# Altium footprint library ADPL16000AATAT.PcbLib: 1 footprints
Each footprint in its own frame and in the unit in brackets; x right, y up, seen from the top. Pads: shape width x height; smd on the part's side, far side on the other; paste and mask are expansions set on the pad; w line width, h text height; cw(c..) or ccw(c..) is an arc to the next point about the centre after c.
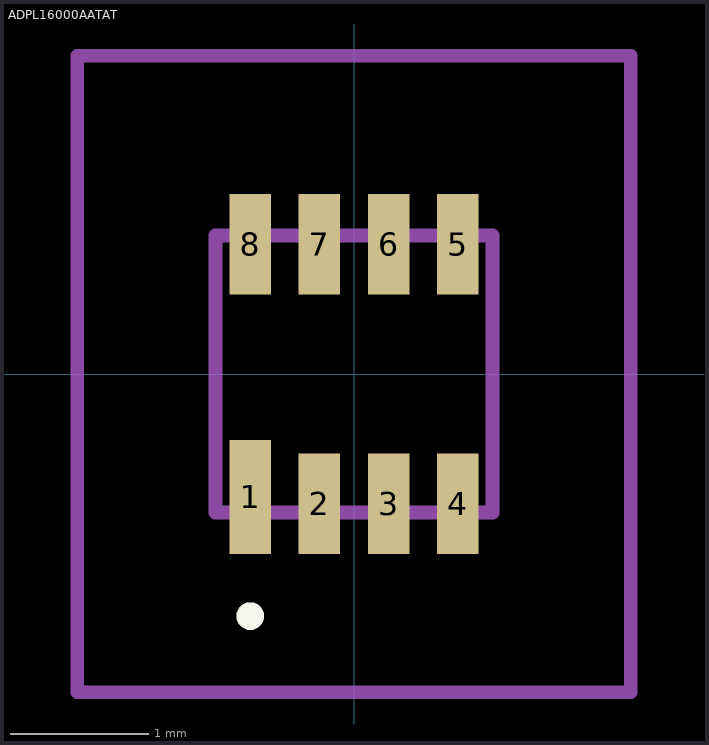
[diagram p0: the footprint, top view; thin cyan lines are the x and y axes]

## ADPL16000AATAT [mm]
pads (8):
  rect 0.3x0.825 smd: 1(-0.75,-0.888)
  rect 0.3x0.725 smd: 2(-0.25,-0.938) 3(0.25,-0.938) 4(0.75,-0.938) 5(0.75,0.938) 6(0.25,0.938) 7(-0.25,0.938) 8(-0.75,0.938)
Top Overlay:
  lines w0.1: -0.75,-1.8 -0.75,-1.8 ; -0.75,-1.8 ccw(c-0.75,-1.75) -0.75,-1.7 ; -0.75,-1.8 cw(c-0.75,-1.75) -0.75,-1.7 ; -0.75,-1.7 -0.75,-1.7
Mechanical 15:
  lines w0.1: -1,-1 1,-1 1,1 -1,1 -1,-1
Mechanical 20:
  lines w0.1: -2,-2.3 2,-2.3 2,2.3 -2,2.3 -2,-2.3